# EAGLE library part CL13345 (library jacks)
6.35mm TRS jack
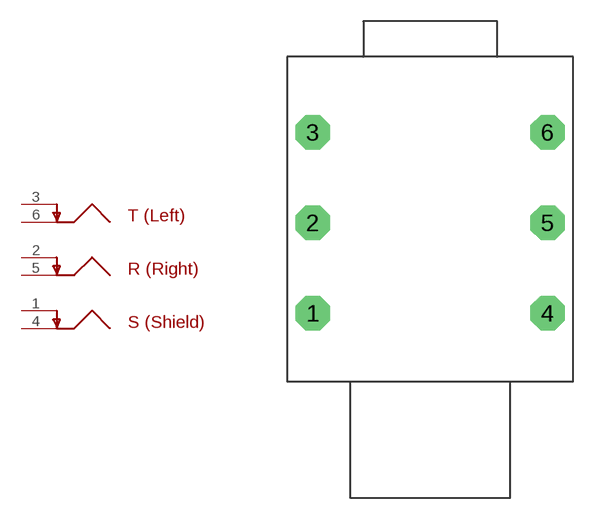
[diagram p0: symbol with the pads of S4-PC-C; footprint S4-PC-C]

Designator prefix -

## CL13345  [S4-PC-C]
1  1
2  2
3  3
4  4
5  5
6  6

## Footprint S4-PC-C (pad centres in mm)
drill 1.6 octagon: 1 -8.15,9.6; 2 -8.15,15.95; 3 -8.15,22.3; 4 8.35,9.6; 5 8.35,15.95; 6 8.35,22.3